# Altium integrated library Capacitor.IntLib: 342 symbols (part 2 of 2)
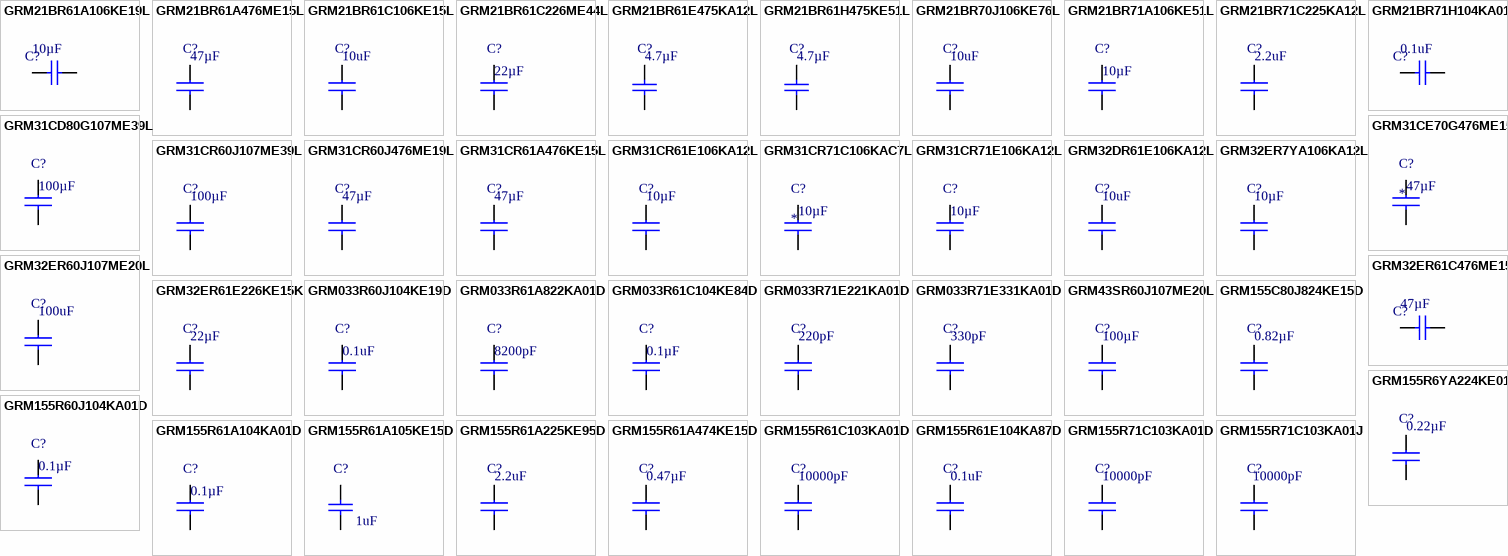
[diagram p9: symbols GRM21BR61A106KE19L to GRM155R71C103KA01J]

## GRM155R6YA224KE01D
designator C?  value 0.22µF  (hidden comment: *)
CAP CER 0.22UF 35V X5R 0402; MPN: GRM155R6YA224KE01D; MFT: Murata Electronics North America; TYPE: Surface Mount, MLCC; RATING: 35V
footprint C0402
pins: 1, 2

## GRM155R60J104KA01D
designator C?  value 0.1µF  (hidden comment: *)
CAP CER 0.1UF 6.3V X5R 0402; MPN: GRM155R60J104KA01D; MFT: Murata Electronics North America; TYPE: SMD; RATING: 6.3V X5R; LOAD: *
footprint C0402
pins: 1, 2

## GRM155R61A104KA01D
designator C?  value 0.1µF  (hidden comment: *)
CAP CER 0.1UF 10V 10% X5R 0402; MPN: GRM155R61A104KA01D; MFT: Murata Electronics North America; TYPE: Surface Mount; RATING: 10V
footprint C0402
pins: 1, 2

## GRM155R61A105KE15D
designator C?  value 1uF  (hidden comment: *)
CAP CER 1UF 10V X5R 0402; MPN: GRM155R61A105KE15D; MFT: Murata Electronics North America; TYPE: SMD; LOAD: *; RATING: 10V
footprint C0402
pins: 1, 2

## GRM155R61A225KE95D
designator C?  value 2.2uF  (hidden comment: *)
CAP CER 2.2UF 10V X5R 0402; MPN: GRM155R61A225KE95D; MFT: Murata Electronics North America; TYPE: SMD; LOAD: *; RATING: 10V
footprint C0402
pins: 1, 2

## GRM155R61A474KE15D
designator C?  value 0.47µF  (hidden comment: *)
CAP CER 0.47UF 10V 10% X5R 0402; MPN: GRM155R61A474KE15D; MFT: Murata Electronics North America; TYPE: Surface Mount; RATING: 10V
footprint C0402
pins: 1, 2

## GRM155R61C103KA01D
designator C?  value 10000pF  (hidden comment: *)
CAP CER 10000PF 16V X5R 0402; MPN: Murata Electronics North America; MFT: GRM155R61C103KA01D; RATING: ±10%, 16V; TYPE: Surface Mount, MLCC
footprint C0402
pins: 1, 2

## GRM155R61E104KA87D
designator C?  value 0.1uF  (hidden comment: *)
CAP CER 0.1UF 25V X5R 0402; MPN: GRM155R61E104KA87D; TYPE: Surface Mount, MLCC; MFT: Murata Electronics North Americ; RATING: 25V
footprint C0402
pins: 1, 2

## GRM155R71C103KA01D
designator C?  value 10000pF  (hidden comment: *)
CAP CER 10000PF 16V X7R 0402; MPN: GRM155R71C103KA01D; MFT: Murata Electronics North America; RATING: ±10%, 16V; TYPE: Surface Mount, MLCC
footprint C0402
pins: 1, 2

## GRM155R71C103KA01J
designator C?  value 10000pF  (hidden comment: *)
CAP CER 10000PF 16V 10% X7R 0402; MPN: GRM155R71C103KA01J; MFT: Murata Electronics North America; TYPE: Surface Mount; RATING: 16V; LOAD: *
footprint C0402
pins: 1, 2

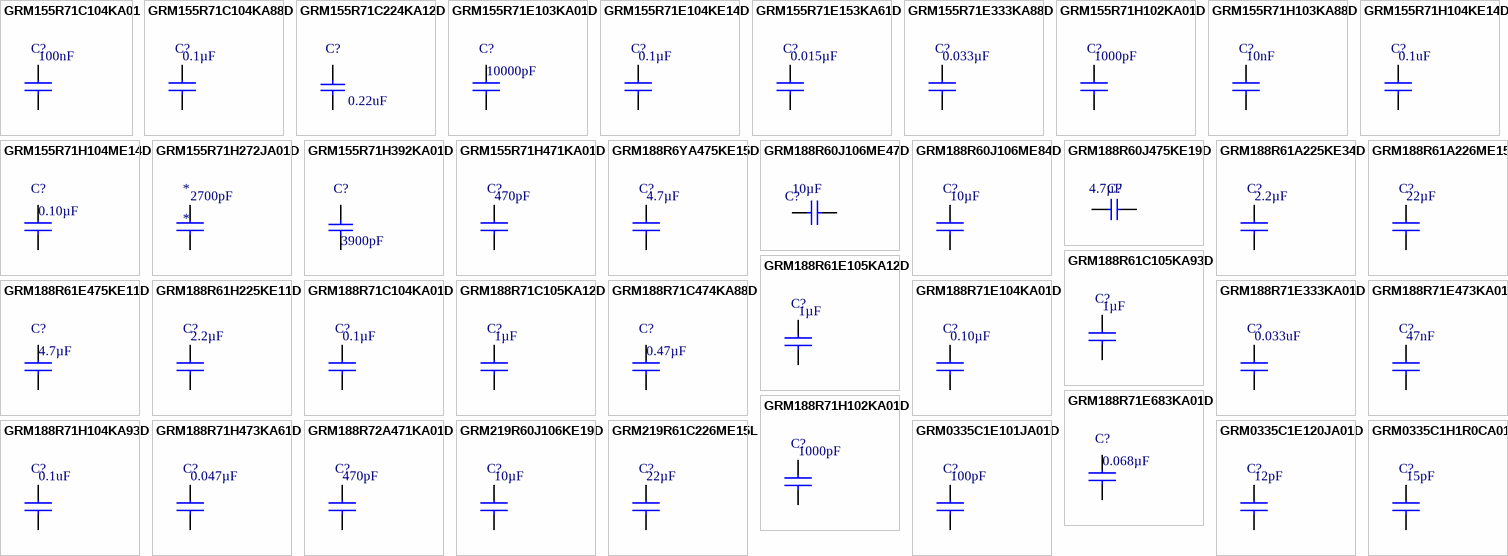
[diagram p6: symbols GRM155R71C104KA01 to GRM0335C1H1R0CA01D]

## GRM155R71C104KA01
designator C?  value 100nF  (hidden comment: *)
100 nF Capacitor Ceramic X7R 0402 10% 16 V; MPN: GRM155R71C104KA01; MFT: MURATA; TYPE: Surface Mount; RATING: 16V
footprint C0402
pins: 1, 2

## GRM155R71C104KA88D
designator C?  value 0.1µF  (hidden comment: *)
CAP CER 0.1UF 16V 10% X7R 0402; MPN: GRM155R71C104KA88D; MFT: Murata Electronics North America; TYPE: Surface Mount, MLCC; RATING: 16V 10% X7R
footprint C0402
pins: 1, 2

## GRM155R71C224KA12D
designator C?  value 0.22uF  (hidden comment: *)
CAP CER 0.22UF 16V X7R 0402; MPN: GRM155R71C224KA12D; MFT: Murata Electronics North America; TYPE: SMD; LOAD: *; RATING: 16V
footprint C0402
pins: 1, 2

## GRM155R71E103KA01D
designator C?  value 10000pF  (hidden comment: *)
CAP CER 10000PF 25V X7R 0402; MPN: GRM155R71E103KA01D; MFT: Murata Electronics North America; TYPE: SMD; RATING: 25V; LOAD: *
footprint C0402
pins: 1, 2

## GRM155R71E104KE14D
designator C?  value 0.1µF  (hidden comment: *)
CAP CER 0.1UF 25V X7R 0402; MPN: GRM155R71E104KE14D; MFT: Murata Electronics North America; TYPE: Surface Mount, MLCC; RATING: 25V
footprint C0402
pins: 1, 2

## GRM155R71E153KA61D
designator C?  value 0.015µF  (hidden comment: *)
CAP CER 0.015UF 25V X7R 0402; MPN: GRM155R71E153KA61D; TYPE: Surface Mount, MLCC; MFT: Murata Electronics North America; RATING: 25V
footprint C0402
pins: 1, 2

## GRM155R71E333KA88D
designator C?  value 0.033µF  (hidden comment: *)
CAP CER 0.033UF 25V X7R 0402; MPN: GRM155R71E333KA88D; MFT: Murata; TYPE: Surface Mount; RATING: 25V
footprint C0402
pins: 1, 2

## GRM155R71H102KA01D
designator C?  value 1000pF  (hidden comment: *)
CAP CER 1000PF 50V X7R 0402; MPN: GRM155R71H102KA01D; MFT: Murata Electronics North America; TYPE: SMD; LOAD: *; RATING: 50V
footprint C0402
pins: 1, 2

## GRM155R71H103KA88D
designator C?  value 10nF  (hidden comment: *)
CAP CER 10000PF 50V X7R 0402; MPN: GRM155R71H103KA88D; MFT: Murata Electronics North America; TYPE: SMD; LOAD: *; RATING: 50V
footprint C0402
pins: 1, 2

## GRM155R71H104KE14D
designator C?  value 0.1uF  (hidden comment: *)
CAP CER 0.1UF 50V X7R 0402; MPN: GRM155R71H104KE14D; MFT: Murata Electronics North America; TYPE: SMD; LOAD: *; RATING: 50V
footprint C0402
pins: 1, 2

## GRM155R71H104ME14D
designator C?  value 0.10µF  (hidden comment: *)
CAP CER 0.1UF 50V X7R 0402; MPN: GRM155R71H104ME14D; MFT: Murata Electronics North America; TYPE: SMD; RATING: 50V; LOAD: *
footprint C0402
pins: 1, 2

## GRM155R71H272JA01D
designator *  value 2700pF
Cap Ceramic 0.0027uF 50V X7R 5% SMD 0402 125C Paper T/R; MPN: GRM155R71H272JA01D; MFT: Murata; RATING: 50V; TYPE: SMD; LOAD: *
footprint C0402
pins: 1, 2

## GRM155R71H392KA01D
designator C?  value 3900pF  (hidden comment: *)
CAP CER 3900PF 50V X7R 0402; MPN: GRM155R71H392KA01D; MFT: Murata; TYPE: SMD; LOAD: *; RATING: 50V
footprint C0402
pins: 1, 2

## GRM155R71H471KA01D
designator C?  value 470pF  (hidden comment: *)
CAP CER 470PF 50V X7R 0402; MPN: GRM155R71H471KA01D; MFT: Murata Electronics North America; TYPE: SMD; LOAD: *; RATING: 50V
footprint C0402
pins: 1, 2

## GRM188R6YA475KE15D
designator C?  value 4.7µF  (hidden comment: *)
CAP CER 4.7UF 35V X5R 0603; MPN: GRM188R6YA475KE15D; MFT: Murata Electronics North America; TYPE: Surface Mount, MLCC; RATING: 35V
footprint C0603
pins: 1, 2

## GRM188R60J106ME47D
designator C?  value 10µF  (hidden comment: *)
CAP CER 10UF 6.3V 20% X5R 0603; MPN: GRM188R60J106ME47D; MFT: Murata Electronics North America; TYPE: Surface Mount, MLCC; RATING: 6.3V
footprint C0603
pins: 1, 2

## GRM188R60J106ME84D
designator C?  value 10µF  (hidden comment: *)
CAP CER 10UF 6.3V 20% X5R 0603; MPN: GRM188R60J106ME84D; MFT: Murata Electronics North America; TYPE: Suurface Mount; RATING: 6.3V
footprint C0603
pins: 1, 2

## GRM188R60J475KE19D
designator C?  value 4.7µF
CAP CER 4.7UF 6.3V X5R 0603; MPN: GRM188R60J475KE19D; MFT: Murata Electronics North America; TYPE: Surface Mount; RATING: 6.3V
footprint C0603
pins: 1, 2

## GRM188R61A225KE34D
designator C?  value 2.2µF  (hidden comment: *)
CAP CER 2.2UF 10V X5R 0603; MPN: GRM188R61A225KE34D; MFT: Murata Electronics North America; TYPE: Surface Mount, MLCC; RATING: 10V
footprint C0603
pins: 1, 2

## GRM188R61A226ME15D
designator C?  value 22µF  (hidden comment: *)
CAP CER 22UF 10V X5R 0603; MPN: GRM188R61A226ME15D; MFT: Murata Electronics North America; TYPE: Surface Mount, MLCC; RATING: 10V
footprint C0603
pins: 1, 2

## GRM188R61C105KA93D
designator C?  value 1µF  (hidden comment: *)
CAP CER 1UF 16V X5R 0603; MPN: GRM188R61C105KA93D; MFT: Murata Electronics North America; TYPE: Surface Mount, MLCC; RATING: 16V
footprint C0603
pins: 1, 2

## GRM188R61E105KA12D
designator C?  value 1µF  (hidden comment: *)
CAP CER 1UF 25V X5R 0603; MPN: GRM188R61E105KA12D; MFT: Murata Electronics North America; TYPE: Surface Mount; LOAD: 25V; RATING: 25V
footprint C0603
pins: 1, 2

## GRM188R61E475KE11D
designator C?  value 4.7µF  (hidden comment: *)
CAP CER 4.7UF 25V X5R 0603; MPN: GRM188R61E475KE11D; MFT: Murata Electronics North America; TYPE: SMD; RATING: 25V; LOAD: *
footprint C0603
pins: 1, 2

## GRM188R61H225KE11D
designator C?  value 2.2µF  (hidden comment: *)
CAP CER 2.2UF 50V X5R 0603; MPN: GRM188R61H225KE11D; MFT: Murata Electronics North America; TYPE: Surface Mount, MLCC; RATING: 50V
footprint C0603
pins: 1, 2

## GRM188R71C104KA01D
designator C?  value 0.1µF  (hidden comment: *)
CAP CER 0.1UF 16V 10% X7R 0603; MPN: GRM188R71C104KA01D; MFT: Murata Electronics North America; TYPE: Surface Mount, MLCC; RATING: 16V 10% X7R
footprint C0603
pins: 1, 2

## GRM188R71C105KA12D
designator C?  value 1µF  (hidden comment: *)
CAP CER 1UF 16V X7R 0603; MPN: GRM188R71C105KA12D; MFT: Murata Electronics North America; RATING: ±10%, 16V; TYPE: Surface Mount, MLCC
footprint C0603
pins: 1, 2

## GRM188R71C474KA88D
designator C?  value 0.47µF  (hidden comment: *)
CAP CER 0.47UF 16V X7R 0603; MPN: GRM188R71C474KA88D; MFT: Murata Electronics North America; TYPE: SMD; RATING: 16V; LOAD: *
footprint C0603
pins: 1, 2

## GRM188R71E104KA01D
designator C?  value 0.10µF  (hidden comment: *)
CAP CER 0.1UF 25V X7R 0603; MPN: GRM188R71E104KA01D; MFT: Murata Electronics North America; TYPE: Surface Mount, MLCC; RATING: 25V
footprint C0603
pins: 1, 2

## GRM188R71E333KA01D
designator C?  value 0.033uF  (hidden comment: *)
CAP CER 0.033UF 25V X7R 0603; MPN: GRM188R71E333KA01D; MFT: Murata Electronics North America; TYPE: Surface Mount, MLCC; RATING: 25V
footprint C0603
pins: 1, 2

## GRM188R71E473KA01D
designator C?  value 47nF  (hidden comment: *)
CAP CER 0.047UF 25V X7R 0603; MPN: GRM188R71E473KA01D; MFT: Murata Electronics North America; TYPE: SMD; LOAD: *; RATING: 25V
footprint C0603
pins: 1, 2

## GRM188R71E683KA01D
designator C?  value 0.068µF  (hidden comment: *)
CAP CER 0.068UF 25V X7R 0603; MPN: GRM188R71E683KA01D; MFT: Murata Electronics North America; TYPE: SMD; RATING: 25V; LOAD: *
footprint C0603
pins: 1, 2

## GRM188R71H102KA01D
designator C?  value 1000pF  (hidden comment: *)
CAP CER 1000PF 50V X7R 0603; MPN: GRM188R71H102KA01D; MFT: Murata Electronics North America; RATING: ±10%, 50V; TYPE: Surface Mount, MLCC
footprint C0603
pins: 1, 2

## GRM188R71H104KA93D
designator C?  value 0.1uF  (hidden comment: *)
CAP CER 0.1UF 50V X7R 0603; MPN: GRM188R71H104KA93D; MFT: Murata Electronics North America; TYPE: SMD; LOAD: *; RATING: 50V
footprint C0603
pins: 1, 2

## GRM188R71H473KA61D
designator C?  value 0.047µF  (hidden comment: *)
CAP CER 0.047UF 50V X7R 0603; MPN: GRM188R71H473KA61D; MFT: Murata Electronics North America; RATING: ±10%, 50V; TYPE: Surface Mount, MLCC
footprint C0603
pins: 1, 2

## GRM188R72A471KA01D
designator C?  value 470pF  (hidden comment: *)
CAP CER 470PF 100V X7R 0603; MPN: GRM188R72A471KA01D; MFT: Murata Electronics North America; TYPE: Surface Mount, MLCC; RATING: 100V
footprint C0603
pins: 1, 2

## GRM219R60J106KE19D
designator C?  value 10µF  (hidden comment: *)
CAP CER 10UF 6.3V X5R 0805; MPN: GRM219R60J106KE19D; MFT: Murata Electronics North America; TYPE: Surface Mount, MLCC; RATING: 6.3V
footprint C0805
pins: 1, 2

## GRM219R61C226ME15L
designator C?  value 22µF  (hidden comment: *)
CAP CER 22UF 16V 20% X5R 0805; MPN: GRM219R61C226ME15L; MFT: Murata Electronics North America; TYPE: Surface Mount, MLCC; RATING: 16V 20% X5R
footprint C0805
pins: 1, 2

## GRM0335C1E101JA01D
designator C?  value 100pF  (hidden comment: *)
CAP CER 100PF 25V C0G/NP0 0201; MPN: GRM0335C1E101JA01D; MFT: Murata Electronics North America; TYPE: SMD; LOAD: *; RATING: 25V
footprint C0201
pins: 1, 2

## GRM0335C1E120JA01D
designator C?  value 12pF  (hidden comment: *)
CAP CER 12PF 25V C0G/NP0 0201; MPN: GRM0335C1E120JA01D; MFT: Murata Electronics North America; TYPE: SMD; LOAD: *; RATING: 25V
footprint C0201
pins: 1, 2

## GRM0335C1H1R0CA01D
designator C?  value 15pF  (hidden comment: *)
CAP CER 1PF 50V C0G/NP0 0201; MPN: GRM0335C1H1R0CA01D; MFT: Murata Electronics North America; TYPE: SMD; LOAD: *; RATING: 50V
footprint C0201
pins: 1, 2

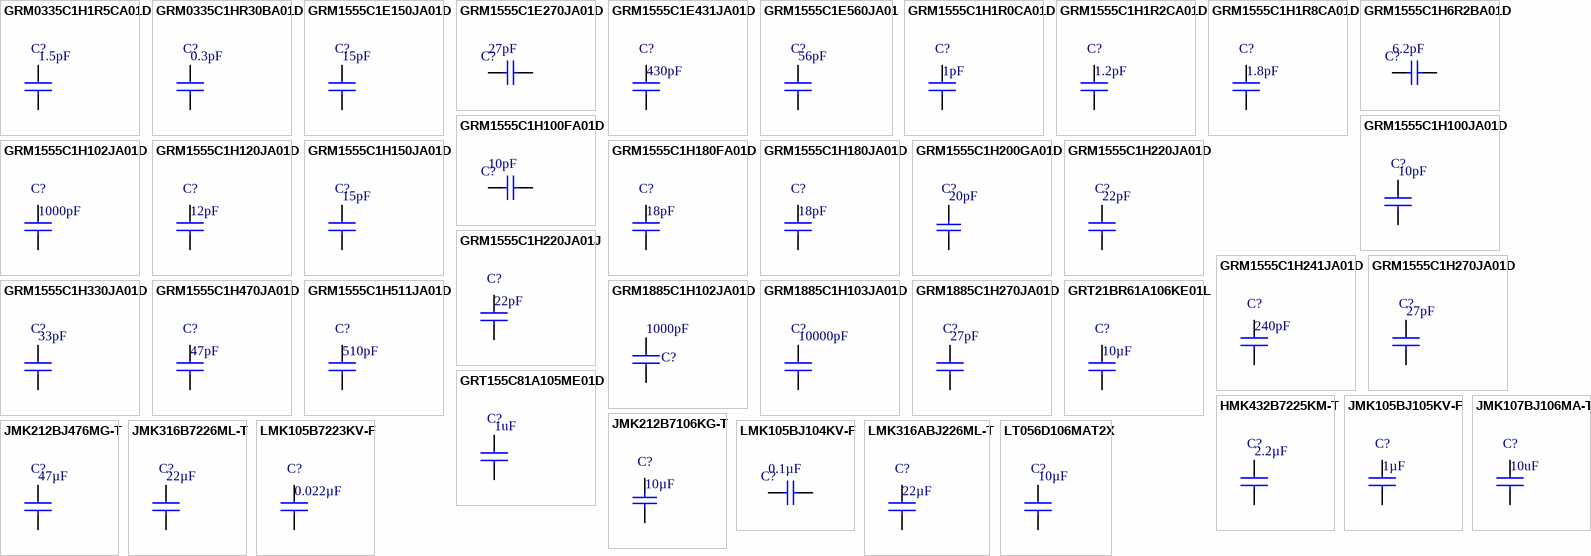
[diagram p7: symbols GRM0335C1H1R5CA01D to LT056D106MAT2X]

## GRM0335C1H1R5CA01D
designator C?  value 1.5pF  (hidden comment: *)
CAP CER 1.5PF 50V C0G/NP0 0201; MPN: GRM0335C1H1R5CA01D; MFT: Murata Electronics North America; TYPE: SMD; LOAD: *; RATING: 50V
footprint C0201
pins: 1, 2

## GRM0335C1HR30BA01D
designator C?  value 0.3pF  (hidden comment: *)
CAP CER 0.3PF 50V C0G/NP0 0201; MPN: GRM0335C1HR30BA01D; MFT: Murata Electronics North America; TYPE: SMD; LOAD: *; RATING: 50V
footprint C0201
pins: 1, 2

## GRM1555C1E150JA01D
designator C?  value 15pF  (hidden comment: *)
CAP CER 15PF 25V 5% NP0 0402; MPN: Murata Electronics North America; MFT: GRM1555C1E150JA01D; TYPE: Surface Mount; RATING: 25V
footprint C0402
pins: 1, 2

## GRM1555C1E270JA01D
designator C?  value 27pF  (hidden comment: *)
CAP CER 27PF 25V 5% NP0 0402; MPN: GRM1555C1E270JA01D; MFT: Murata Electronics North America; TYPE: Surface Mount, MLCC; RATING: 25V
footprint C0402
pins: 1, 2

## GRM1555C1E431JA01D
designator C?  value 430pF  (hidden comment: *)
CAP CER 430PF 25V NP0 0402; MPN: GRM1555C1E431JA01D; MFT: Murata Electronics North America; TYPE: SMD; RATING: 25V; LOAD: *
footprint C0402
pins: 1, 2

## GRM1555C1E560JA01
designator C?  value 56pF  (hidden comment: *)
56 pF Capacitor Ceramic C0G 0402 5% 25 V; MPN: GRM1555C1E560JA01; MFT: MURATA; RATING: 25V; TYPE: Surface Mount
footprint C0402
pins: 1, 2

## GRM1555C1H1R0CA01D
designator C?  value 1pF  (hidden comment: *)
CAP CER 1PF 50V C0G/NP0 0402; MPN: GRM1555C1H1R0CA01D; MFT: Murata; TYPE: SMD; APN: *; LOAD: *; RATING: 50V
footprint CAPC1005X55N
pins: 1, 2

## GRM1555C1H1R2CA01D
designator C?  value 1.2pF  (hidden comment: *)
CAP CER 1.2PF 50V C0G/NP0 0402; MPN: GRM1555C1H1R2CA01D; MFT: Murata; TYPE: SMD; RATING: 50V; LOAD: *; APN: *
footprint CAPC1005X55N
pins: 1, 2

## GRM1555C1H1R8CA01D
designator C?  value 1.8pF  (hidden comment: *)
CAP CER 1.8PF 50V C0G/NP0 0402; MPN: GRM1555C1H1R8CA01D; MFT: Murata; TYPE: SMD; LOAD: *; RATING: 50V; APN: *
footprint CAPC1005X55N
pins: 1, 2

## GRM1555C1H6R2BA01D
designator C?  value 6.2pF  (hidden comment: *)
CAP CER 6.2PF 50V NP0 0402; MPN: GRM1555C1H6R2BA01D; MFT: Murata Electronics North America; TYPE: Surface Mount, MLCC; RATING: 50V
footprint C0402
pins: 1, 2

## GRM1555C1H100FA01D
designator C?  value 10pF  (hidden comment: *)
CAP CER 10PF 50V 1% NP0 0402; MPN: GRM1555C1H100FA01D; MFT: Murata Electronics North America; TYPE: Surface Mount, MLCC; RATING: 50V
footprint C0402
pins: 1, 2

## GRM1555C1H100JA01D
designator C?  value 10pF  (hidden comment: *)
CAP CER 10PF 50V 5% NP0 0402; MPN: GRM1555C1H100JA01D; MFT: Murata Electronics North America; TYPE: Surface Mount; RATING: 50V
footprint C0402
pins: 1, 2

## GRM1555C1H102JA01D
designator C?  value 1000pF  (hidden comment: *)
CAP CER 1000PF 50V NP0 0402; MPN: GRM1555C1H102JA01D; MFT: Murata Electronics North America; TYPE: SMD; RATING: 50V; LOAD: *
footprint C0402
pins: 1, 2

## GRM1555C1H120JA01D
designator C?  value 12pF  (hidden comment: *)
CAP CER 12PF 50V C0G/NP0 0402; MPN: GRM1555C1H120JA01D; MFT: Murata; TYPE: SMD; APN: *; RATING: 50V; LOAD: *
footprint CAPC1005X55N
pins: 1, 2

## GRM1555C1H150JA01D
designator C?  value 15pF  (hidden comment: *)
CAP CER 15PF 50V 5% NP0 0402; MPN: GRM1555C1H150JA01D; MFT: Murata Electronics North America; TYPE: Surface Mount; RATING: 50V
footprint C0402
pins: 1, 2

## GRM1555C1H180FA01D
designator C?  value 18pF  (hidden comment: *)
CAP CER 18PF 50V NP0 0402; MPN: GRM1555C1H180FA01D; MFT: Murata Electronics North America; TYPE: SMD; RATING: 50V; LOAD: *
footprint C0402
pins: 1, 2

## GRM1555C1H180JA01D
designator C?  value 18pF  (hidden comment: *)
CAP CER 18PF 50V NP0 0402; MPN: GRM1555C1H180JA01D; MFT: Murata Electronics North America; TYPE: SMD; RATING: 50V NP0; LOAD: *
footprint C0402
pins: 1, 2

## GRM1555C1H200GA01D
designator C?  value 20pF  (hidden comment: *)
CAP CER 20PF 50V NP0 0402; MPN: GRM1555C1H200GA01D; MFT: Murata Electronics North America; TYPE: Surface Mount, MLCC; RATING: 50V
footprint C0402
pins: 1, 2

## GRM1555C1H220JA01D
designator C?  value 22pF  (hidden comment: *)
CAP CER 22PF 50V 5% NP0 0402; MPN: GRM1555C1H220JA01D; MFT: Murata Electronics North America; TYPE: Surface Mount; RATING: 50V
footprint C0402
pins: 1, 2

## GRM1555C1H220JA01J
designator C?  value 22pF  (hidden comment: *)
CAP CER 22PF 50V NP0 0402; MPN: GRM1555C1H220JA01J; MFT: Murata Electronics North America; TYPE: SMD; RATING: 50V; LOAD: *
footprint C0402
pins: 1, 2

## GRM1555C1H241JA01D
designator C?  value 240pF  (hidden comment: *)
CAP CER 240PF 50V NP0 0402; MPN: GRM1555C1H241JA01D; MFT: Murata Electronics North America; TYPE: SMD; RATING: 50V; LOAD: *
footprint C0402
pins: 1, 2

## GRM1555C1H270JA01D
designator C?  value 27pF  (hidden comment: *)
CAP CER 27PF 50V 5% NP0 0402; MPN: GRM1555C1H270JA01D; MFT: Murata Electronics North America; TYPE: Surface Mount; RATING: 50V
footprint C0402
pins: 1, 2

## GRM1555C1H330JA01D
designator C?  value 33pF  (hidden comment: *)
CAP CER 33PF 50V 5% NP0 0402; MPN: Murata Electronics North America; MFT: GRM1555C1H330JA01D; TYPE: Surface Mount; RATING: 50V
footprint C0402
pins: 1, 2

## GRM1555C1H470JA01D
designator C?  value 47pF  (hidden comment: *)
CAP CER 47PF 50V C0G/NP0 0402; MPN: GRM1555C1H470JA01D; MFT: Murata; TYPE: SMD; APN: *; RATING: 50V; LOAD: *
footprint CAPC1005X55N
pins: 1, 2

## GRM1555C1H511JA01D
designator C?  value 510pF  (hidden comment: *)
CAP CER 510PF 50V NP0 0402; MPN: GRM1555C1H511JA01D; MFT: Murata Electronics North America; TYPE: SMD; RATING: 50V; LOAD: *
footprint C0402
pins: 1, 2

## GRM1885C1H102JA01D
designator C?  value 1000pF  (hidden comment: GRM1885C1H102JA01D)
CAP CER 1000PF 50V 5% NP0 0603; MFT: Murata Electronics North America; TYPE: Surface Mount, MLCC; MPN: GRM1885C1H102JA01D; RATING: 50V
footprint C0603
pins: 1, 2

## GRM1885C1H103JA01D
designator C?  value 10000pF  (hidden comment: *)
CAP CER 10000PF 50V NP0 0603; MPN: GRM1885C1H103JA01D; MFT: Murata Electronics North America; TYPE: Surface Mount, MLCC; RATING: 50V
footprint C0603
pins: 1, 2

## GRM1885C1H270JA01D
designator C?  value 27pF  (hidden comment: *)
CAP CER 27PF 50V C0G/NP0 0603; MPN: GRM1885C1H270JA01D; MFT: Murata Electronics North America; TYPE: SMD; LOAD: *; RATING: 50V
footprint C0603
pins: 1, 2

## GRT21BR61A106KE01L
designator C?  value 10µF  (hidden comment: *)
CAP CER 10UF 10V X5R 0805; MPN: GRT21BR61A106KE01L; MFT: Murata; TYPE: SMD; LOAD: *; RATING: 10V; APN: *
footprint CAPC2012X135N
pins: 1, 2

## GRT155C81A105ME01D
designator C?  value 1uF  (hidden comment: *)
CAP CER 1UF 10V X6S 0402; MPN: GRT155C81A105ME01D; MFT: Murata Electronics North America; TYPE: SMD; LOAD: *; RATING: 10V
footprint C0402
pins: 1, 2

## HMK432B7225KM-T
designator C?  value 2.2µF  (hidden comment: *)
CAP CER 2.2UF 100V X7R 1812; MPN: HMK432B7225KM-T; MFT: Taiyo Yuden; TYPE: Surface Mount, MLCC; RATING: 100V
footprint C1812
pins: 1, 2

## JMK105BJ105KV-F
designator C?  value 1µF  (hidden comment: *)
CAP CER 1UF 6.3V X5R 0402; MPN: JMK105BJ105KV-F; MFT: Taiyo Yuden; TYPE: SMD; RATING: 6.3V X5R; LOAD: *
footprint C0402
pins: 1, 2

## JMK107BJ106MA-T
designator C?  value 10uF  (hidden comment: *)
CAP CER 10UF 6.3V X5R 0603; MPN: JMK107BJ106MA-T; MFT: Taiyo; TYPE: SMD; LOAD: *; RATING: 6.3V
footprint C0603
pins: 1, 2

## JMK212B7106KG-T
designator C?  value 10µF  (hidden comment: *)
CAP CER 10UF 6.3V X7R 0805; MPN: JMK212B7106KG-T; MFT: Taiyo Yuden; TYPE: SMD; RATING: 6.3V; LOAD: *
footprint C0805
pins: 1, 2

## JMK212BJ476MG-T
designator C?  value 47µF  (hidden comment: *)
CAP CER 47UF 6.3V 20% X5R 0805; MPN: JMK212BJ476MG-T; MFT: Taiyo Yuden; TYPE: Surface Mount; RATING: 6.3V
footprint C0805
pins: 1, 2

## JMK316B7226ML-T
designator C?  value 22µF  (hidden comment: *)
CAP CER 22UF 6.3V X7R 1206; MPN: JMK316B7226ML-T; MFT: Taiyo Yuden; RATING: ±20%, 6.3V; TYPE: Surface Mount, MLCC
footprint C1206
pins: 1, 2

## LMK105B7223KV-F
designator C?  value 0.022µF  (hidden comment: *)
CAP CER 0.022UF 10V X7R 0402; MPN: LMK105B7223KV-F; MFT: Taiyo Yuden; TYPE: SMD; RATING: 10V X7R; LOAD: *
footprint C0402
pins: 1, 2

## LMK105BJ104KV-F
designator C?  value 0.1µF  (hidden comment: *)
CAP CER 0.1UF 10V 10% X5R 0402; MPN: LMK105BJ104KV-F; MFT: Taiyo Yuden; TYPE: Surface Mount, MLCC; RATING: 10V
footprint C0402
pins: 1, 2

## LMK316ABJ226ML-T
designator C?  value 22µF  (hidden comment: *)
CAP CER 22UF 10V X5R 1206; MPN: LMK316ABJ226ML-T; MFT: Taiyo Yuden; TYPE: SMD; RATING: 10V; LOAD: *
footprint C1206
pins: 1, 2

## LT056D106MAT2X
designator C?  value 10µF  (hidden comment: *)
CAP CER 10UF 6.3V X5R 0805; MPN: LT056D106MAT2X; MFT: AVX Corporation; RATING: ±20%, 6.3V; TYPE: Surface Mount, MLCC
footprint C0805
pins: 1, 2

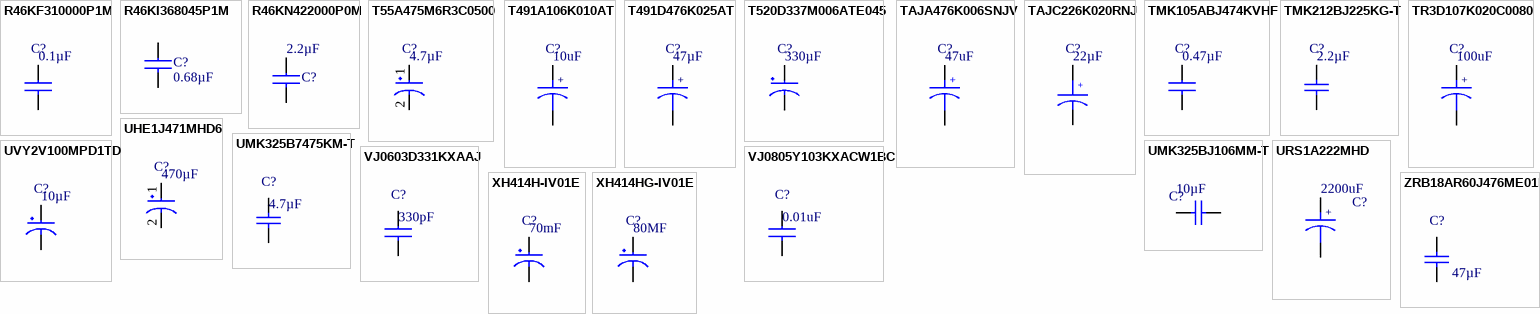
[diagram p8: symbols R46KF310000P1M to ZRB18AR60J476ME01L]

## R46KF310000P1M
designator C?  value 0.1µF  (hidden comment: *)
CAP FILM 0.1UF 20% 560VDC RADIAL; MPN: R46KF310000P1M; MFT: Kemet; TYPE: Through Hole; RATING: 560VDC
footprint R46KF310000P1M
pins: 1, 2

## R46KI368045P1M
designator C?  value 0.68µF  (hidden comment: R46KI368045P1M)
CAP FILM .68UF 275VAC X2 RAD; MFT: Kemet; RATING: 275V, 560V; TYPE: Through Hole; MPN: R46KI368045P1M
footprint RADIAL CAPACITOR 2
pins: 1, 2

## R46KN422000P0M
designator C?  value 2.2µF  (hidden comment: R46KN422000P0M)
CAP FILM 2.2UF 560VDC RADIAL; MFT: Kemet; RATING: 275V, 560V; TYPE: Through Hole; MPN: R46KN422000P0M
footprint Radial capacitor
pins: 1, 2

## T55A475M6R3C0500
designator C?  value 4.7µF  (hidden comment: *)
CAP TANT POLY 4.7UF 6.3V 1206; MPN: T55A475M6R3C0500; MFT: Vishay Sprague; TYPE: Surface Mount; RATING: 6.3V, 20%
footprint C1206 (3216 Metric)
pins: 1, 2

## T491A106K010AT
designator C?  value 10uF  (hidden comment: *)
CAP TANT 10UF 10V 10% 1206; MPN: T491A106K010AT; MFT: KEMET; TYPE: SMD; LOAD: *; RATING: 10V
footprint C1206 (3216 Metric)
pins: 1, 2
text: +

## T491D476K025AT
designator C?  value 47µF  (hidden comment: *)
CAP TANT 47UF 25V 10% 2917; MPN: T491D476K025AT; MFT: Kemet; TYPE: Surface Mount; RATING: 25V
footprint C2917
pins: 1, 2
text: +

## T520D337M006ATE045
designator C?  value 330µF  (hidden comment: *)
CAP TANT POLY 330UF 6.3V 2917; MPN: T520D337M006ATE045; MFT: Kemet; TYPE: Surface Mount; RATING: 6.3V
footprint C2917
pins: 1, 2

## TAJA476K006SNJV
designator C?  value 47uF  (hidden comment: *)
Tantalum Capacitors - Solid SMD 6.3volts 47uF 10% 1206 SMD; MPN: TAJA476K006SNJV; TYPE: Surface Mount; RATING: 6.3V; MFT: AVX
footprint C1206
pins: 1, 2
text: +

## TAJC226K020RNJ
designator C?  value 22µF  (hidden comment: *)
CAP TANT 22UF 20V 10% 2312; MPN: TAJC226K020RNJ; MFT: AVX Corporation; RATING: ±10%, 20V; TYPE: Surface Mount
footprint C2312
pins: 1, 2
text: +

## TMK105ABJ474KVHF
designator C?  value 0.47µF  (hidden comment: *)
CAP CER 0.47UF 25V X5R 0402; MPN: TMK105ABJ474KVHF; MFT: Taiyo Yuden; TYPE: Surface Mount, MLCC; RATING: 25V
footprint C0402
pins: 1, 2

## TMK212BJ225KG-T
designator C?  value 2.2µF  (hidden comment: *)
CAP CER 2.2UF 25V 10% X5R 0805; MPN: TMK212BJ225KG-T; MFT: Taiyo Yuden; TYPE: Surface Mount, MLCC; RATING: 25V
footprint C0805
pins: 1, 2

## TR3D107K020C0080
designator C?  value 100uF  (hidden comment: *)
CAP TANT 100UF 20V 10% 2917; MPN: TR3D107K020C0080; MFT: Vishay Sprague; TYPE: SMD; LOAD: *; RATING: 20V
footprint C2917
pins: 1, 2
text: +

## UHE1J471MHD6
designator C?  value 470µF  (hidden comment: *)
CAP ALUM 470UF 20% 63V RADIAL; MPN: UHE1J471MHD6; MFT: Rubycon; TYPE: Through Hole; RATING: 63V
footprint UHE1J471MHD6
pins: 1, 2

## UMK325B7475KM-T
designator C?  value 4.7µF  (hidden comment: *)
CAP CER 4.7UF 50V X7R 1210; MPN: UMK325B7475KM-T; MFT: Taiyo Yuden; TYPE: SMD; RATING: 50V; LOAD: *
footprint C1210
pins: 1, 2

## UMK325BJ106MM-T
designator C?  value 10µF  (hidden comment: *)
CAP CER 10UF 50V 20% X5R 1210; MPN: UMK325BJ106MM-T; MFT: Taiyo Yuden; TYPE: Surface Mount, MLCC; RATING: 50V
footprint C0603
pins: 1, 2

## URS1A222MHD
designator C?, comment value 2200uF  (hidden comment: Capacitor Electrolytic)
Aluminum Electrolytic Capacitors - Leaded 10volts 2200uF 12.5x15 20% 5LS; MPN: URS1A222MHD; MFT: Nichicon; RATING: 10V; TYPE: Through-Hole
footprint RB-12.5D-5 (Radial 12.5mm Diameter 5mm Lead Space)
pins: 1, 2
text: +

## UVY2V100MPD1TD
designator C?  value 10µF  (hidden comment: *)
CAP ALUM 10UF 20% 350V RADIAL; MPN: UVY2V100MPD1TD; MFT: Nichicon; TYPE: Through Hole; RATING: 20% 350V
footprint C0603
pins: 1, 2

## VJ0603D331KXAAJ
designator C?  value 330pF  (hidden comment: *)
CAP CER 330PF 50V NP0 0603; MPN: VJ0603D331KXAAJ; MFT: Vishay Vitramon; TYPE: SMD; RATING: 50V; LOAD: *
footprint C0603
pins: 1, 2

## VJ0805Y103KXACW1BC
designator C?  value 0.01uF  (hidden comment: *)
CAP CER 10000PF 50V X7R 0805; MPN: VJ0805Y103KXACW1BC; MFT: Vishay; TYPE: SMD; RATING: 50V; LOAD: *
footprint C0805
pins: 1, 2

## XH414H-IV01E
designator C?  value 70mF  (hidden comment: *)
CAP 70MF 3.3V SURFACE MOUNT; MPN: XH414H-IV01E; MFT: Seiko Instruments; TYPE: Surface Mount; RATING: 3.3V
footprint XH414H-IV01E
pins: 1, 2

## XH414HG-IV01E
designator C?  value 80MF  (hidden comment: *)
CAP 80MF 3.3V SURFACE MOUNT; MPN: XH414HG-IV01E; MFT: Seiko Instruments; TYPE: Surface Mount; RATING: 3.3V
footprint XH414HG-IV01E
pins: 1, 2

## ZRB18AR60J476ME01L
designator C?  value 47µF  (hidden comment: *)
CAP CER 47UF 6.3V X5R 0603; MPN: ZRB18AR60J476ME01L; MFT: Murata Electronics North America; TYPE: Surface Mount, MLCC; RATING: 6.3V
footprint C0603
pins: 1, 2